# Altium schematic symbol library NCV78L05ABDR2G.SchLib: 1 symbol
Pins are listed as number, name and electrical type; pins without a type are passive.

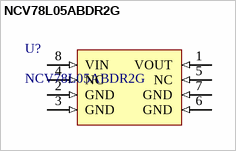
[diagram p0: symbol NCV78L05ABDR2G]

## NCV78L05ABDR2G
designator U?
Linear Voltage Regulators 5V 100mA Positive Ex tended Temp /; Manufacturer: ON Semiconductor; Min Supply Voltage: 7V; Max Supply Voltage: 30V; PN: NCV78L05ABDR2G; Case/Package: SOIC-8; Number of Pins: 8; Min Operating Temperature: -40°C; Max Operating Temperature: 125°C; ComponentLink1URL: https://www.mouser.ca/datasheet/2/308/1/MC78L00A_D-2315651.pdf; ComponentLink1Description: Datasheet; Footprint: SOIC-8; Supplier 1: Digi-Key; Supplier Part Number 1: NCV78L05ABDR2GOSCT-ND
footprint SOIC-8
pins: 1 VOUT (in), 2 GND (in), 3 GND (in), 4 NC (in), 5 NC (in), 6 GND (in), 7 GND (in), 8 VIN (in)